# EAGLE library part M-02038_HRD05003 (library Akizuki)
秋月ページ <http://akizukidenshi.com/catalog/g/gM-02038/> データシート <http://akizukidenshi.com/download/ds/shindengen/hrd050r6.pdf> 主な仕様 ・動作原理：チョッパー方式（非絶縁型） ・出力：ＤＣ５Ｖ（可変可能）最大：３Ａ ・入力：ＤＣ８Ｖ～４０Ｖ ・動作条件： ［入力電圧］－［出力電圧］≧３Ｖ コンバーター自身で３Ｖのドロップを生じます。 ・効率約８０％ ・外形寸法： ３９（Ｗ）ｘ２８（Ｄ）ｘ２６（Ｈ）（ｍｍ）
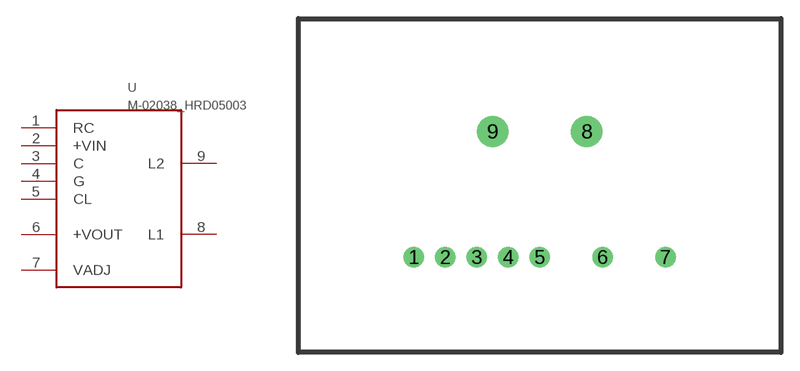
[diagram p42: symbol with the pads of HRD05003; footprint HRD05003]

Designator prefix U

## M-02038_HRD05003  [HRD05003]
1  RC
2  +VIN
3  C
4  G
5  CL
6  +VOUT
7  VADJ
8  L1
9  L2

## Footprint HRD05003 (pad centres in mm)
drill 0.8 pad 1.65: 1 -10.16,-5.8; 2 -7.62,-5.8; 3 -5.08,-5.8; 4 -2.54,-5.8; 5 0,-5.8; 6 5.08,-5.8; 7 10.16,-5.8
drill 1 pad 2.54: 8 3.81,4.36; 9 -3.81,4.36